# Altium footprint library pin6header.PcbLib: 1 footprints
Each footprint in its own frame and in the unit in brackets; x right, y up, seen from the top. Pads: shape width x height; smd on the part's side, far side on the other; paste and mask are expansions set on the pad; w line width, h text height; cw(c..) or ccw(c..) is an arc to the next point about the centre after c.
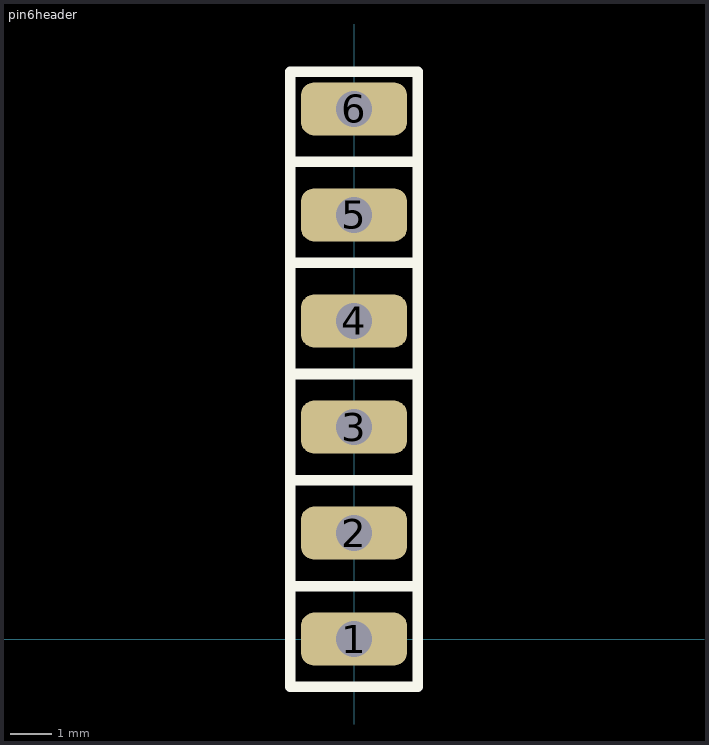
[diagram p0: the footprint, top view; thin cyan lines are the x and y axes]

## pin6header [mm]
pads (6):
  rrect50% 2.54x1.27 hole 0.86: 1(0,0) 2(0,2.54) 3(0,5.08) 4(0,7.62) 5(0,10.16) 6(0,12.7)
Top Overlay:
  lines w0.254: -1.524,1.27 1.524,1.27 ; -1.524,3.81 1.524,3.81 ; -1.524,6.35 1.524,6.35 ; -1.524,9.017 1.524,9.017 ; -1.524,11.43 1.524,11.43 ; -1.524,-1.143 -1.524,13.589 1.524,13.589 1.524,-1.143 -1.524,-1.143
3D body "6x_Male_Pin_2.54_mm.STEP": height 8.35, standoff -2.75, extent -1.2,-1.397 1.2,13.843